# EAGLE library part 18650CCEBAY (library 18650ChargeCircuit)
Device for this (http://www.ebay.com/itm/172158430467?_trksid=p2060353.m2749.l2649&ssPageName=STRK%3AMEBIDX%3AIT)
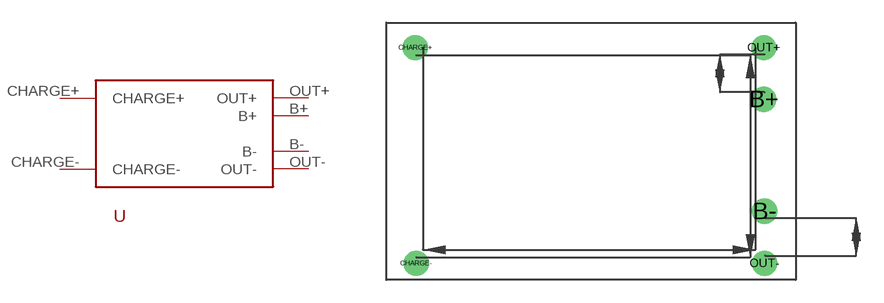
[diagram p0: symbol with the pads of 18650CCEBAY; footprint 18650CCEBAY]

Designator prefix -

## 18650CCEBAY  [18650CCEBAY]
B+  B+
B-  B-
CHARGE+  CHARGE+
CHARGE-  CHARGE-
OUT+  OUT+
OUT-  OUT-

## Footprint 18650CCEBAY (pad centres in mm)
Package for this (http://www.ebay.com/itm/172158430467?_trksid=p2060353.m2749.l2649&ssPageName=STRK%3AMEBIDX%3AIT)
drill 1 pad 1.676: B+ 14.9,1.95; B- 14.95,-5.45; CHARGE+ -8.1,5.35; CHARGE- -8.05,-8.9; OUT+ 14.9,5.35; OUT- 14.95,-8.9